# Altium footprint library IC-SMD.PCBLIB: 298 footprints (part 5 of 19)
Each footprint in its own frame and in the unit in brackets; x right, y up, seen from the top. Pads: shape width x height; smd on the part's side, far side on the other; paste and mask are expansions set on the pad; w line width, h text height; cw(c..) or ccw(c..) is an arc to the next point about the centre after c.
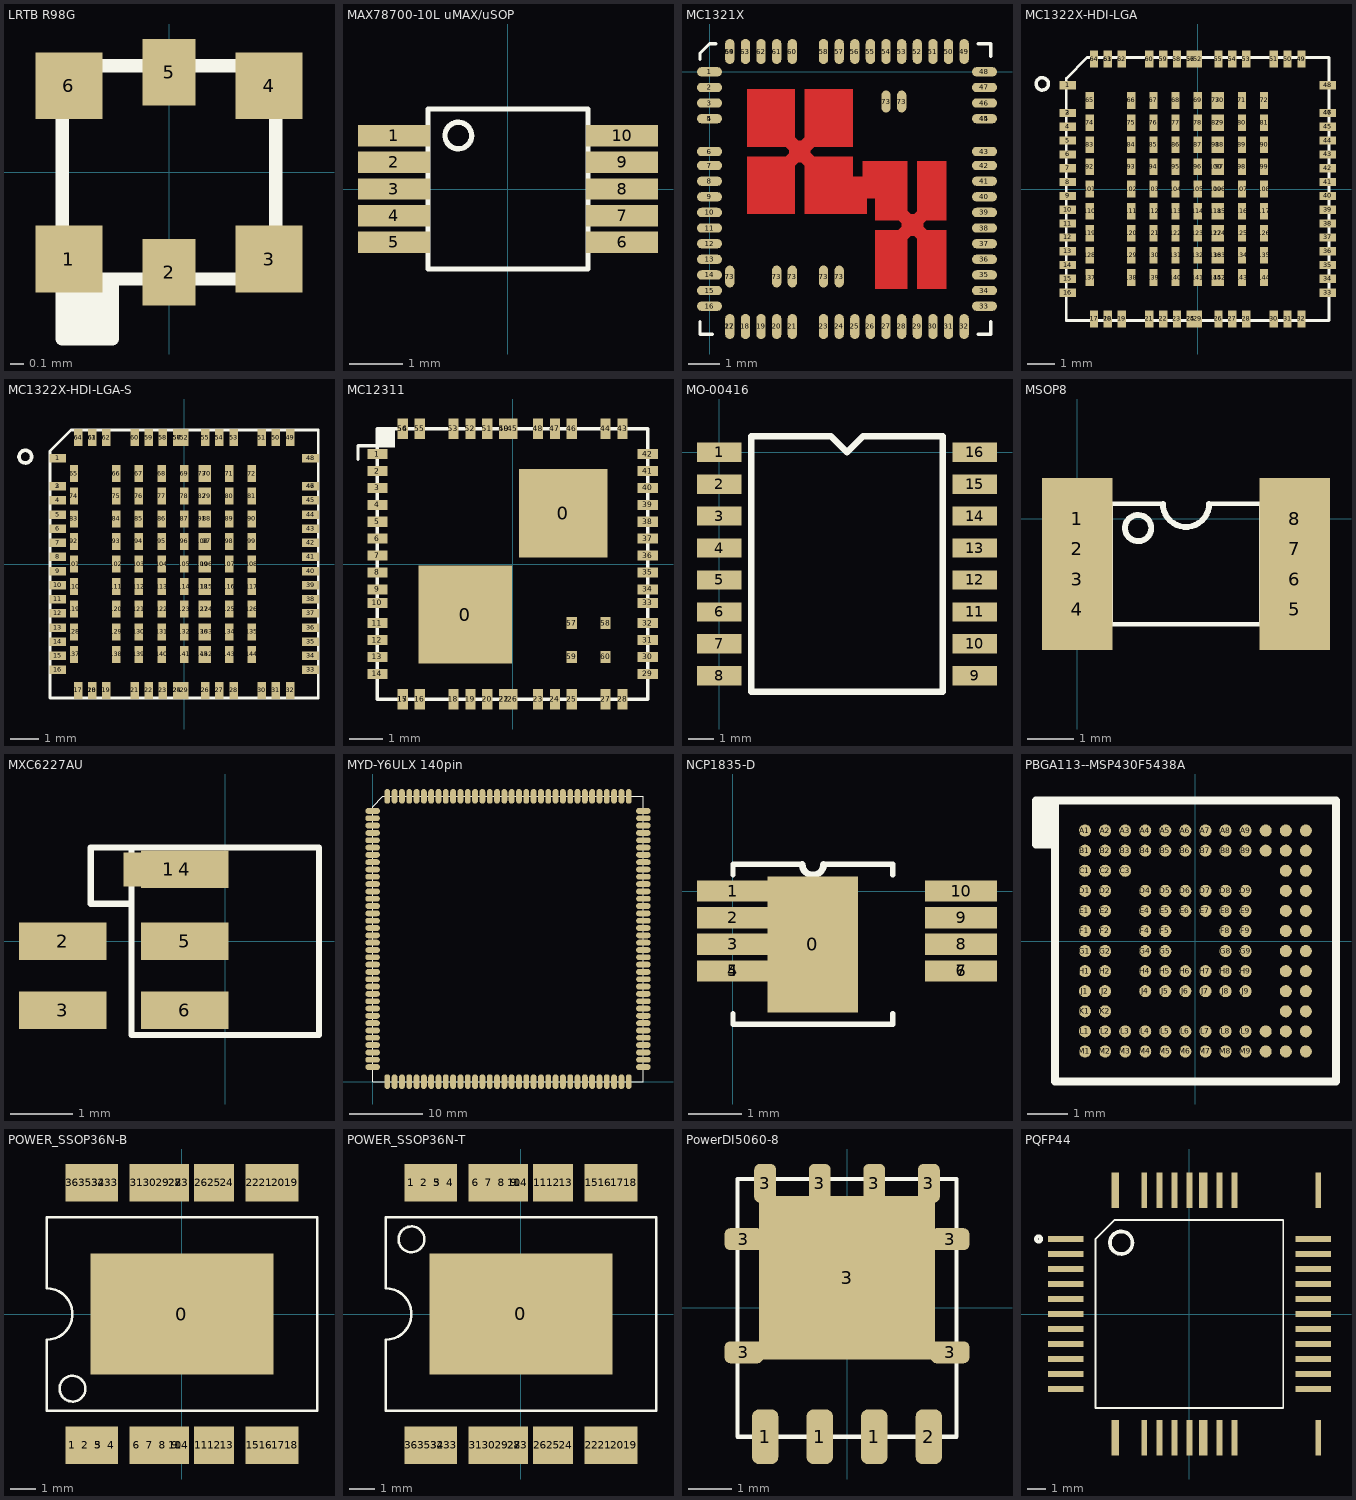
[diagram p4: the footprints below, top view; thin cyan lines are the x and y axes]

## LRTB R98G [mm] "LRTB R98G"
pads (6):
  rect 0.5x0.5 smd: 1(-0.75,-0.65) 3(0.75,-0.65) 4(0.75,0.65) 6(-0.75,0.65)
  rect 0.4x0.5 smd: 2(0,-0.75) 5(0,0.75)
TopOverlay:
  rectangle: -0.85,-1.25 -0.375,-0.8
  lines w0.1: -0.425,-0.8 -0.425,-1.25 -0.8,-1.25 -0.8,-0.8 ; -0.8,-0.8 0.8,-0.8 0.8,0.8 -0.8,0.8 -0.8,-0.8

## MAX78700-10L uMAX/uSOP [mm] "MAX78700-10L uMAX/uSOP"
pads (10):
  rect 1.35x0.4 smd: 1(-2.14,1) 2(-2.14,0.5) 3(-2.14,0) 4(-2.14,-0.5) 5(-2.14,-1) 6(2.14,-1) 7(2.14,-0.5) 8(2.14,0) 9(2.14,0.5) 10(2.14,1)
TopOverlay:
  circle w0.1: c-0.932,1.003 r0.25
  lines w0.1: -1.5,-1.5 1.5,-1.5 1.5,1.5 -1.5,1.5 -1.5,-1.5

## MC1321X [mm]
pads (71):
  oval 0.8x0.3 smd: 1(0,0) 2(0,-0.5) 3(0,-1) 4(0,-1.5) 5(0,-1.5) 6(0,-2.55) 7(0,-3) 8(0,-3.5) 9(0,-4) 10(0,-4.5) 11(0,-5) 12(0,-5.5) 13(0,-6) 14(0,-6.5) 15(0,-7) 16(0,-7.5) 33(8.8,-7.5) 34(8.8,-7) 35(8.8,-6.5) 36(8.8,-6) 37(8.8,-5.5) 38(8.8,-5) 39(8.8,-4.5) 40(8.8,-4) 41(8.8,-3.5) 42(8.8,-3) 43(8.8,-2.55) 44(8.8,-1.5) 45(8.8,-1.5) 46(8.8,-1) 47(8.8,-0.5) 48(8.8,0)
  oval 0.3x0.8 smd: 17(0.65,-8.15) 18(1.15,-8.15) 19(1.65,-8.15) 20(2.15,-8.15) 21(2.65,-8.15) 22(0.65,-8.15) 23(3.65,-8.15) 24(4.15,-8.15) 25(4.65,-8.15) 26(5.15,-8.15) 27(5.65,-8.15) 28(6.15,-8.15) 29(6.65,-8.15) 30(7.15,-8.15) 31(7.65,-8.15) 32(8.15,-8.15) 49(8.15,0.65) 50(7.65,0.65) 51(7.15,0.65) 52(6.65,0.65) 53(6.15,0.65) 54(5.65,0.65) 55(5.15,0.65) 56(4.65,0.65) 57(4.15,0.65) 58(3.65,0.65) 59(0.65,0.65) 60(2.65,0.65) 61(2.15,0.65) 62(1.65,0.65) 63(1.15,0.65) 64(0.65,0.65)
  oval 0.3x0.7 smd: 73(0.65,-6.55) 73(2.15,-6.55) 73(2.65,-6.55) 73(3.65,-6.55) 73(4.15,-6.55) 73(5.65,-0.95) 73(6.15,-0.95)
TopLayer:
  rectangle: 6.141,-5.253 6.842,-4.552
  rectangle: 2.54,-2.904 3.238,-2.204
  rectangle: 6.64,-6.953 7.588,-5.055
  rectangle: 5.294,-6.953 6.338,-5.055
  rectangle: 6.64,-4.753 7.588,-2.858
  rectangle: 5.294,-4.751 6.338,-2.858
  rectangle: 4.893,-4.05 5.31,-2.858
  rectangle: 4.588,-4.553 5.035,-3.356
  rectangle: 1.195,-4.553 2.74,-2.703
  rectangle: 3.044,-2.401 4.588,-0.557
  rectangle: 1.192,-2.404 2.74,-0.557
  rectangle: 3.044,-4.553 4.588,-2.709
  lines w0.42: 5.762,-4.177 7.22,-5.635 ; 5.81,-5.584 7.09,-4.304
  lines w0.43: 2.261,-1.926 3.46,-3.125 ; 2.49,-2.956 3.36,-2.086
TopOverlay:
  lines w0.1: -0.3,-8 -0.3,-8.4 0.1,-8.4 ; -0.3,0.4 -0.3,0.6 0,0.9 0.2,0.9 ; 8.6,-8.4 9,-8.4 9,-8 ; 8.6,0.9 9,0.9 9,0.5
TopPaste:
  rectangle: 1.19,-2.105 2.74,-0.555
  rectangle: 3.04,-4.555 4.59,-3.005
  region: 3.34,-2.405 3.517,-2.227 3.217,-1.927 3.04,-2.105
  region: 2.74,-2.105 2.575,-1.94 2.275,-2.24 2.44,-2.405
  region: 3.25,-3.215 3.55,-2.915 3.34,-2.705 3.04,-3.005
  region: 2.567,-3.177 2.74,-3.005 2.44,-2.705 2.268,-2.877
  region: 6.825,-5.54 7.125,-5.24 6.94,-5.055 6.64,-5.355
  region: 6.142,-5.552 6.34,-5.355 6.04,-5.055 5.842,-5.252
  region: 6.94,-4.755 7.117,-4.577 6.817,-4.277 6.64,-4.455
  region: 6.04,-4.755 6.34,-4.455 6.181,-4.296 5.881,-4.596
  rectangle: 6.64,-6.955 7.59,-5.355
  rectangle: 6.94,-5.425 7.59,-5.055
  rectangle: 5.29,-5.45 6.04,-5.055
  rectangle: 5.29,-6.955 6.34,-5.355
  rectangle: 6.94,-4.755 7.59,-4.4
  rectangle: 6.64,-4.455 7.59,-2.855
  rectangle: 5.29,-4.455 6.34,-2.855
  rectangle: 5.29,-4.755 6.04,-4.425
  rectangle: 3.34,-2.405 4.59,-2.05
  rectangle: 3.04,-2.105 4.59,-0.555
  rectangle: 3.34,-3.125 4.59,-2.705
  rectangle: 1.19,-3.05 2.44,-2.705
  rectangle: 1.19,-2.405 2.44,-2.075
  rectangle: 1.19,-4.555 2.74,-3.005
  lines w0.01: 1.19,-4.555 2.74,-4.555 2.74,-3.005 2.44,-2.705 1.19,-2.705 1.19,-4.555 ; 1.19,-2.405 1.19,-0.555 2.74,-0.555 2.74,-2.105 2.44,-2.405 1.19,-2.405 ; 3.04,-4.555 4.59,-4.555 4.59,-2.705 3.34,-2.705 3.04,-3.005 3.04,-4.555 ; 3.04,-2.105 3.04,-0.555 4.59,-0.555 4.59,-2.405 3.34,-2.405 3.04,-2.105 ; 5.29,-6.955 5.29,-5.055 6.04,-5.055 6.34,-5.355 6.34,-6.955 5.29,-6.955 ; 5.29,-4.755 6.04,-4.755 6.34,-4.455 6.34,-2.855 5.29,-2.855 5.29,-4.755 ; 6.64,-6.955 7.59,-6.955 7.59,-5.055 6.94,-5.055 6.64,-5.355 6.64,-6.955 ; 6.64,-4.455 6.94,-4.755 7.59,-4.755 7.59,-2.855 6.64,-2.855 6.64,-4.455
TopSolder:
  region: 7.9,-2.625 5.1,-2.625 5.1,-7.175 7.9,-7.175
  region: 4.8,-0.325 0.95,-0.325 0.95,-4.775 4.8,-4.775
  rectangle: 4.65,-4.775 5.25,-2.625

## MC1322X-HDI-LGA [mm]
pads (145):
  rect 0.6x0.3 smd: 1(-4.7,3.75) 2(-4.7,2.75) 3(-4.7,2.75) 4(-4.7,2.25) 5(-4.7,1.75) 6(-4.7,1.25) 7(-4.7,0.75) 8(-4.7,0.25) 9(-4.7,-0.25) 10(-4.7,-0.75) 11(-4.7,-1.25) 12(-4.7,-1.75) 13(-4.7,-2.25) 14(-4.7,-2.75) 15(-4.7,-3.25) 16(-4.7,-3.75) 33(4.7,-3.75) 34(4.7,-3.25) 35(4.7,-2.75) 36(4.7,-2.25) 37(4.7,-1.75) 38(4.7,-1.25) 39(4.7,-0.75) 40(4.7,-0.25) 41(4.7,0.25) 42(4.7,0.75) 43(4.7,1.25) 44(4.7,1.75) 45(4.7,2.25) 46(4.7,2.75) 47(4.7,2.75) 48(4.7,3.75)
  rect 0.3x0.6 smd: 17(-3.75,-4.7) 18(-3.25,-4.7) 19(-2.75,-4.7) 20(-3.25,-4.7) 21(-1.75,-4.7) 22(-1.25,-4.7) 23(-0.75,-4.7) 24(-0.25,-4.7) 25(-0.25,-4.7) 26(0.75,-4.7) 27(1.25,-4.7) 28(1.75,-4.7) 29(0,-4.7) 30(2.75,-4.7) 31(3.25,-4.7) 32(3.75,-4.7) 49(3.75,4.7) 50(3.25,4.7) 51(2.75,4.7) 52(0,4.7) 53(1.75,4.7) 54(1.25,4.7) 55(0.75,4.7) 56(-0.25,4.7) 57(-0.25,4.7) 58(-0.75,4.7) 59(-1.25,4.7) 60(-1.75,4.7) 61(-3.25,4.7) 62(-2.75,4.7) 63(-3.25,4.7) 64(-3.75,4.7) 65(-3.9,3.2) 66(-2.4,3.2) 67(-1.6,3.2) 68(-0.8,3.2) 69(0,3.2) 70(0.8,3.2) 71(1.6,3.2) 72(2.4,3.2) 73(0.65,3.2) 74(-3.9,2.4) 75(-2.4,2.4) 76(-1.6,2.4) 77(-0.8,2.4) 78(0,2.4) 79(0.8,2.4) 80(1.6,2.4) 81(2.4,2.4) 82(0.65,2.4) 83(-3.9,1.6) 84(-2.4,1.6) 85(-1.6,1.6) 86(-0.8,1.6) 87(0,1.6) 88(0.8,1.6) 89(1.6,1.6) 90(2.4,1.6) 91(0.65,1.6) 92(-3.9,0.8) 93(-2.4,0.8) 94(-1.6,0.8) 95(-0.8,0.8) 96(0,0.8) 97(0.8,0.8) 98(1.6,0.8) 99(2.4,0.8) 100(0.65,0.8) 101(-3.9,0) 102(-2.4,0) 103(-1.6,0) 104(-0.8,0) 105(0,0) 106(0.8,0) 107(1.6,0) 108(2.4,0) 109(0.65,0) 110(-3.9,-0.8) 111(-2.4,-0.8) 112(-1.6,-0.8) 113(-0.8,-0.8) 114(0,-0.8) 115(0.8,-0.8) 116(1.6,-0.8) 117(2.4,-0.8) 118(0.65,-0.8) 119(-3.9,-1.6) 120(-2.4,-1.6) 121(-1.6,-1.6) 122(-0.8,-1.6) 123(0,-1.6) 124(0.8,-1.6) 125(1.6,-1.6) 126(2.4,-1.6) 127(0.65,-1.6) 128(-3.9,-2.4) 129(-2.4,-2.4) 130(-1.6,-2.4) 131(-0.8,-2.4) 132(0,-2.4) 133(0.8,-2.4) 134(1.6,-2.4) 135(2.4,-2.4) 136(0.65,-2.4) 137(-3.9,-3.2) 138(-2.4,-3.2) 139(-1.6,-3.2) 140(-0.8,-3.2) 141(0,-3.2) 142(0.8,-3.2) 143(1.6,-3.2) 144(2.4,-3.2) 145(0.65,-3.2)
TopOverlay:
  circle w0.127: c-5.624,3.8 r0.224
  lines w0.1: -4.75,-4.75 4.75,-4.75 4.75,4.75 -4,4.75 -4.75,4 -4.75,-4.75

## MC1322X-HDI-LGA-S [mm]
pads (145):
  rect 0.6x0.3 smd: 1(-4.475,3.75) 2(-4.475,2.75) 3(-4.475,2.75) 4(-4.475,2.25) 5(-4.475,1.75) 6(-4.475,1.25) 7(-4.475,0.75) 8(-4.475,0.25) 9(-4.475,-0.25) 10(-4.475,-0.75) 11(-4.475,-1.25) 12(-4.475,-1.75) 13(-4.475,-2.25) 14(-4.475,-2.75) 15(-4.475,-3.25) 16(-4.475,-3.75) 33(4.475,-3.75) 34(4.475,-3.25) 35(4.475,-2.75) 36(4.475,-2.25) 37(4.475,-1.75) 38(4.475,-1.25) 39(4.475,-0.75) 40(4.475,-0.25) 41(4.475,0.25) 42(4.475,0.75) 43(4.475,1.25) 44(4.475,1.75) 45(4.475,2.25) 46(4.475,2.75) 47(4.475,2.75) 48(4.475,3.75)
  rect 0.3x0.6 smd: 17(-3.75,-4.475) 18(-3.25,-4.475) 19(-2.75,-4.475) 20(-3.25,-4.475) 21(-1.75,-4.475) 22(-1.25,-4.475) 23(-0.75,-4.475) 24(-0.25,-4.475) 25(-0.25,-4.475) 26(0.75,-4.475) 27(1.25,-4.475) 28(1.75,-4.475) 29(0,-4.475) 30(2.75,-4.475) 31(3.25,-4.475) 32(3.75,-4.475) 49(3.75,4.475) 50(3.25,4.475) 51(2.75,4.475) 52(0,4.475) 53(1.75,4.475) 54(1.25,4.475) 55(0.75,4.475) 56(-0.25,4.475) 57(-0.25,4.475) 58(-0.75,4.475) 59(-1.25,4.475) 60(-1.75,4.475) 61(-3.25,4.475) 62(-2.75,4.475) 63(-3.25,4.475) 64(-3.75,4.475) 65(-3.9,3.2) 66(-2.4,3.2) 67(-1.6,3.2) 68(-0.8,3.2) 69(0,3.2) 70(0.8,3.2) 71(1.6,3.2) 72(2.4,3.2) 73(0.65,3.2) 74(-3.9,2.4) 75(-2.4,2.4) 76(-1.6,2.4) 77(-0.8,2.4) 78(0,2.4) 79(0.8,2.4) 80(1.6,2.4) 81(2.4,2.4) 82(0.65,2.4) 83(-3.9,1.6) 84(-2.4,1.6) 85(-1.6,1.6) 86(-0.8,1.6) 87(0,1.6) 88(0.8,1.6) 89(1.6,1.6) 90(2.4,1.6) 91(0.65,1.6) 92(-3.9,0.8) 93(-2.4,0.8) 94(-1.6,0.8) 95(-0.8,0.8) 96(0,0.8) 97(0.8,0.8) 98(1.6,0.8) 99(2.4,0.8) 100(0.65,0.8) 101(-3.9,0) 102(-2.4,0) 103(-1.6,0) 104(-0.8,0) 105(0,0) 106(0.8,0) 107(1.6,0) 108(2.4,0) 109(0.65,0) 110(-3.9,-0.8) 111(-2.4,-0.8) 112(-1.6,-0.8) 113(-0.8,-0.8) 114(0,-0.8) 115(0.8,-0.8) 116(1.6,-0.8) 117(2.4,-0.8) 118(0.65,-0.8) 119(-3.9,-1.6) 120(-2.4,-1.6) 121(-1.6,-1.6) 122(-0.8,-1.6) 123(0,-1.6) 124(0.8,-1.6) 125(1.6,-1.6) 126(2.4,-1.6) 127(0.65,-1.6) 128(-3.9,-2.4) 129(-2.4,-2.4) 130(-1.6,-2.4) 131(-0.8,-2.4) 132(0,-2.4) 133(0.8,-2.4) 134(1.6,-2.4) 135(2.4,-2.4) 136(0.65,-2.4) 137(-3.9,-3.2) 138(-2.4,-3.2) 139(-1.6,-3.2) 140(-0.8,-3.2) 141(0,-3.2) 142(0.8,-3.2) 143(1.6,-3.2) 144(2.4,-3.2) 145(0.65,-3.2)
TopOverlay:
  circle w0.127: c-5.624,3.8 r0.224
  lines w0.1: -4.75,-4.75 4.75,-4.75 4.75,4.75 -4,4.75 -4.75,4 -4.75,-4.75

## MC12311 [mm]
pads (62):
  rect 2.77x2.901 smd: 0(-1.4,-1.5)
  rect 2.62x2.62 smd: 0(1.5,1.5)
  rect 0.6x0.3 smd: 1(-4,3.25) 2(-4,2.75) 3(-4,2.25) 4(-4,1.75) 5(-4,1.25) 6(-4,0.75) 7(-4,0.25) 8(-4,-0.25) 9(-4,-0.75) 10(-4,-1.15) 11(-4,-1.75) 12(-4,-2.25) 13(-4,-2.75) 14(-4,-3.25) 29(4,-3.25) 30(4,-2.75) 31(4,-2.25) 32(4,-1.75) 33(4,-1.15) 34(4,-0.75) 35(4,-0.25) 36(4,0.25) 37(4,0.75) 38(4,1.25) 39(4,1.75) 40(4,2.25) 41(4,2.75) 42(4,3.25)
  rect 0.3x0.6 smd: 15(-3.25,-4) 16(-2.75,-4) 17(-3.25,-4) 18(-1.75,-4) 19(-1.25,-4) 20(-0.75,-4) 21(-0.25,-4) 22(-0.25,-4) 23(0.75,-4) 24(1.25,-4) 25(1.75,-4) 26(0,-4) 27(2.75,-4) 28(3.25,-4) 43(3.25,4) 44(2.75,4) 45(0,4) 46(1.75,4) 47(1.25,4) 48(0.75,4) 49(-0.25,4) 50(-0.25,4) 51(-0.75,4) 52(-1.25,4) 53(-1.75,4) 54(-3.25,4) 55(-2.75,4) 56(-3.25,4)
  rect 0.3x0.35 smd: 57(1.75,-1.75) 58(2.75,-1.75) 59(1.75,-2.75) 60(2.75,-2.75)
TopOverlay:
  rectangle: -4,3.45 -3.475,4
  lines w0.1: -4.575,3.1 -4.575,3.5 -4,3.5 ; -4,-4 -4,4 4,4 4,-4 -4,-4

## MO-00416 [mil]
pads (16):
  rect 70x30 smd: 1(0,0) 2(0,-50) 3(0,-100) 4(0,-150) 5(0,-200) 6(0,-250) 7(0,-300) 8(0,-350) 9(400,-350) 10(400,-300) 11(400,-250) 12(400,-200) 13(400,-150) 14(400,-100) 15(400,-50) 16(400,0)
TopOverlay:
  lines w10: 50,-375 50,0 50,25 175,25 200,0 225,25 350,25 350,-375 50,-375

## MSOP8 [mm]
pads (8):
  rect 1.52x1.77 smd: 1(0,0) 2(0,-0.65) 3(0,-1.3) 4(0,-1.95) 5(4.7,-1.95) 6(4.7,-1.3) 7(4.7,-0.65) 8(4.7,0)
TopOverlay:
  circle w0.127: c1.317,-0.2 r0.283
  lines w0.1: 1.849,0.325 0.725,0.325 0.725,-2.275 3.973,-2.275 3.973,0.325 2.849,0.325
  lines w0.127: 1.85,0.325 ccw(c2.35,0.325) 2.85,0.325

## MXC6227AU [mm]
pads (6):
  rect 1.45x0.55 smd: 1(-0.9,1.15)
  rect 1.4x0.6 smd: 2(-2.6,0) 3(-2.6,-1.1) 4(-0.65,1.15) 5(-0.65,0) 6(-0.65,-1.1)
TopOverlay:
  lines w0.1: -1.5,0.6 -2.15,0.6 -2.15,1.5 -1.5,1.5 ; -1.5,1.5 1.5,1.5 1.5,-1.5 -1.5,-1.5 -1.5,1.5

## MYD-Y6ULX 140pin [mm] "MYD-Y6ULX 140pin"
pads (140):
  oval 2x0.8 smd: 1(0,37) 2(0,36) 3(0,35) 4(0,34) 5(0,33) 6(0,32) 7(0,31) 8(0,30) 9(0,29) 10(0,28) 11(0,27) 12(0,26) 13(0,25) 14(0,24) 15(0,23) 16(0,22) 17(0,21) 18(0,20) 19(0,19) 20(0,18) 21(0,17) 22(0,16) 23(0,15) 24(0,14) 25(0,13) 26(0,12) 27(0,11) 28(0,10) 29(0,9) 30(0,8) 31(0,7) 32(0,6) 33(0,5) 34(0,4) 35(0,3) 36(0,2) 71(37,2) 72(37,3) 73(37,4) 74(37,5) 75(37,6) 76(37,7) 77(37,8) 78(37,9) 79(37,10) 80(37,11) 81(37,12) 82(37,13) 83(37,14) 84(37,15) 85(37,16) 86(37,17) 87(37,18) 88(37,19) 89(37,20) 90(37,21) 91(37,22) 92(37,23) 93(37,24) 94(37,25) 95(37,26) 96(37,27) 97(37,28) 98(37,29) 99(37,30) 100(37,31) 101(37,32) 102(37,33) 103(37,34) 104(37,35) 105(37,36) 106(37,37)
  oval 0.8x2 smd: 37(2,0) 38(3,0) 39(4,0) 40(5,0) 41(6,0) 42(7,0) 43(8,0) 44(9,0) 45(10,0) 46(11,0) 47(12,0) 48(13,0) 49(14,0) 50(15,0) 51(16,0) 52(17,0) 53(18,0) 54(19,0) 55(20,0) 56(21,0) 57(22,0) 58(23,0) 59(24,0) 60(25,0) 61(26,0) 62(27,0) 63(28,0) 64(29,0) 65(30,0) 66(31,0) 67(32,0) 68(33,0) 69(34,0) 70(35,0) 107(35,39) 108(34,39) 109(33,39) 110(32,39) 111(31,39) 112(30,39) 113(29,39) 114(28,39) 115(27,39) 116(26,39) 117(25,39) 118(24,39) 119(23,39) 120(22,39) 121(21,39) 122(20,39) 123(19,39) 124(18,39) 125(17,39) 126(16,39) 127(15,39) 128(14,39) 129(13,39) 130(12,39) 131(11,39) 132(10,39) 133(9,39) 134(8,39) 135(7,39) 136(6,39) 137(5,39) 138(4,39) 139(3,39) 140(2,39)
TopOverlay:
  lines w0.127: 0,0 0,37.603 1.397,39 37,39 37,0 0,0

## NCP1835-D [mm]
pads (11):
  rect 1.7x2.55 smd: 0(1.5,-1)
  rect 1.35x0.4 smd: 1(0,0) 2(0,-0.5) 3(0,-1) 4(0,-1.5) 5(0,-1.5) 6(4.28,-1.5) 7(4.28,-1.5) 8(4.28,-1) 9(4.28,-0.5) 10(4.28,0)
TopOverlay:
  lines w0.1: 0,-2.3 0,-2.5 3,-2.5 3,-2.3 ; 0,0.3 0,0.5 1.3,0.5 ; 1.7,0.5 3,0.5 3,0.3
  lines w0.127: 1.3,0.5 ccw(c1.5,0.5) 1.7,0.5

## PBGA113--MSP430F5438A [mm] "PBGA113--MSP430F5438A"
pads (113):
  round 0.3 smd mask+0.05: A1(-2.75,2.75) A2(-2.25,2.75) A3(-1.75,2.75) A4(-1.25,2.75) A5(-0.75,2.75) A6(-0.25,2.75) A7(0.25,2.75) A8(0.75,2.75) A9(1.25,2.75) A10(1.75,2.75) A11(2.25,2.75) A12(2.75,2.75) B1(-2.75,2.25) B2(-2.25,2.25) B3(-1.75,2.25) B4(-1.25,2.25) B5(-0.75,2.25) B6(-0.25,2.25) B7(0.25,2.25) B8(0.75,2.25) B9(1.25,2.25) B10(1.75,2.25) B11(2.25,2.25) B12(2.75,2.25) C1(-2.75,1.75) C2(-2.25,1.75) C3(-1.75,1.75) C11(2.25,1.75) C12(2.75,1.75) D1(-2.75,1.25) D2(-2.25,1.25) D4(-1.25,1.25) D5(-0.75,1.25) D6(-0.25,1.25) D7(0.25,1.25) D8(0.75,1.25) D9(1.25,1.25) D11(2.25,1.25) D12(2.75,1.25) E1(-2.75,0.75) E2(-2.25,0.75) E4(-1.25,0.75) E5(-0.75,0.75) E6(-0.25,0.75) E7(0.25,0.75) E8(0.75,0.75) E9(1.25,0.75) E11(2.25,0.75) E12(2.75,0.75) F1(-2.75,0.25) F2(-2.25,0.25) F4(-1.25,0.25) F5(-0.75,0.25) F8(0.75,0.25) F9(1.25,0.25) F11(2.25,0.25) F12(2.75,0.25) G1(-2.75,-0.25) G2(-2.25,-0.25) G4(-1.25,-0.25) G5(-0.75,-0.25) G8(0.75,-0.25) G9(1.25,-0.25) G11(2.25,-0.25) G12(2.75,-0.25) H1(-2.75,-0.75) H2(-2.25,-0.75) H4(-1.25,-0.75) H5(-0.75,-0.75) H6(-0.25,-0.75) H7(0.25,-0.75) H8(0.75,-0.75) H9(1.25,-0.75) H11(2.25,-0.75) H12(2.75,-0.75) J1(-2.75,-1.25) J2(-2.25,-1.25) J4(-1.25,-1.25) J5(-0.75,-1.25) J6(-0.25,-1.25) J7(0.25,-1.25) J8(0.75,-1.25) J9(1.25,-1.25) J11(2.25,-1.25) J12(2.75,-1.25) K1(-2.75,-1.75) K2(-2.25,-1.75) K11(2.25,-1.75) K12(2.75,-1.75) L1(-2.75,-2.25) L2(-2.25,-2.25) L3(-1.75,-2.25) L4(-1.25,-2.25) L5(-0.75,-2.25) L6(-0.25,-2.25) L7(0.25,-2.25) L8(0.75,-2.25) L9(1.25,-2.25) L10(1.75,-2.25) L11(2.25,-2.25) L12(2.75,-2.25) M1(-2.75,-2.75) M2(-2.25,-2.75) M3(-1.75,-2.75) M4(-1.25,-2.75) M5(-0.75,-2.75) M6(-0.25,-2.75) M7(0.25,-2.75) M8(0.75,-2.75) M9(1.25,-2.75) M10(1.75,-2.75) M11(2.25,-2.75) M12(2.75,-2.75)
TopOverlay:
  rectangle: -3.75,2.5 -3.45,3.6
  rectangle: -3.97,2.4 -3.67,3.5
  lines w0.2: -3.67,2.4 -3.97,2.4 -3.97,3.5 -3.67,3.5 ; -3.5,2.4 -3.8,2.4 -3.8,3.5 -3.5,3.5 ; -3.5,3.5 3.5,3.5 3.5,-3.5 -3.5,-3.5 -3.5,3.5

## POWER_SSOP36N-B [mm]
pads (37):
  rect 7.1x4.7 smd: 0(0,0)
  rect 0.55x1.45 smd: 1(-4.25,-5.1) 2(-3.75,-5.1) 3(-3.25,-5.1) 4(-2.75,-5.1) 5(-3.25,-5.1) 6(-1.75,-5.1) 7(-1.25,-5.1) 8(-0.75,-5.1) 9(-0.25,-5.1) 10(-0.25,-5.1) 11(0.75,-5.1) 12(1.25,-5.1) 13(1.75,-5.1) 14(0,-5.1) 15(2.75,-5.1) 16(3.25,-5.1) 17(3.75,-5.1) 18(4.25,-5.1) 19(4.25,5.1) 20(3.75,5.1) 21(3.25,5.1) 22(2.75,5.1) 23(0,5.1) 24(1.75,5.1) 25(1.25,5.1) 26(0.75,5.1) 27(-0.25,5.1) 28(-0.25,5.1) 29(-0.75,5.1) 30(-1.25,5.1) 31(-1.75,5.1) 32(-3.25,5.1) 33(-2.75,5.1) 34(-3.25,5.1) 35(-3.75,5.1) 36(-4.25,5.1)
TopOverlay:
  circle w0.1: c-4.25,-2.9 r0.5
  lines w0.1: -5.25,-3.75 -5.25,-1 ccw(c-5.25,0) -5.25,1 -5.25,3.75 5.25,3.75 5.25,-3.75 -5.25,-3.75

## POWER_SSOP36N-T [mm]
pads (37):
  rect 7.1x4.7 smd: 0(0,0)
  rect 0.55x1.45 smd: 1(-4.25,5.1) 2(-3.75,5.1) 3(-3.25,5.1) 4(-2.75,5.1) 5(-3.25,5.1) 6(-1.75,5.1) 7(-1.25,5.1) 8(-0.75,5.1) 9(-0.25,5.1) 10(-0.25,5.1) 11(0.75,5.1) 12(1.25,5.1) 13(1.75,5.1) 14(0,5.1) 15(2.75,5.1) 16(3.25,5.1) 17(3.75,5.1) 18(4.25,5.1) 19(4.25,-5.1) 20(3.75,-5.1) 21(3.25,-5.1) 22(2.75,-5.1) 23(0,-5.1) 24(1.75,-5.1) 25(1.25,-5.1) 26(0.75,-5.1) 27(-0.25,-5.1) 28(-0.25,-5.1) 29(-0.75,-5.1) 30(-1.25,-5.1) 31(-1.75,-5.1) 32(-3.25,-5.1) 33(-2.75,-5.1) 34(-3.25,-5.1) 35(-3.75,-5.1) 36(-4.25,-5.1)
TopOverlay:
  circle w0.1: c-4.25,2.9 r0.5
  lines w0.1: -5.25,-3.75 5.25,-3.75 5.25,3.75 -5.25,3.75 -5.25,1 cw(c-5.25,0) -5.25,-1 -5.25,-3.75

## PowerDI5060-8 [mm] "PowerDI5060-8"
pads (13):
  rrect50% 0.61x1.27 smd: 1(-1.905,-3) 1(-0.635,-3) 1(0.635,-3) 2(1.905,-3)
  rrect50% 0.9x0.51 smd: 3(-2.4,-1.035) 3(-2.4,1.6) 3(2.4,-1.035) 3(2.4,1.6)
  rrect50% 0.51x0.9 smd: 3(-1.905,2.9) 3(-0.635,2.9) 3(0.635,2.9) 3(1.905,2.9)
  rect 4.1x3.8 smd: 3(0,0.7)
TopOverlay:
  lines w0.1: -2.55,-3 -2.55,3 2.55,3 2.55,-3 -2.55,-3

## PQFP44 [mm]
pads (44):
  rect 1.9x0.3 smd: 1(-6.6,4) 2(-6.6,3.2) 3(-6.6,2.4) 4(-6.6,1.6) 5(-6.6,0.8) 6(-6.6,0) 7(-6.6,-0.8) 8(-6.6,-1.6) 9(-6.6,-2.4) 10(-6.6,-3.2) 11(-6.6,-4) 23(6.6,-4) 24(6.6,-3.2) 25(6.6,-2.4) 26(6.6,-1.6) 27(6.6,-0.8) 28(6.6,0) 29(6.6,0.8) 30(6.6,1.6) 31(6.6,2.4) 32(6.6,3.2) 33(6.6,4)
  rect 0.3x1.9 smd: 12(-4,-6.6) 13(-3.9,-6.6) 14(-2.4,-6.6) 15(-1.6,-6.6) 16(-0.8,-6.6) 17(0,-6.6) 18(0.8,-6.6) 19(1.6,-6.6) 20(2.4,-6.6) 21(0.65,-6.6) 22(6.86,-6.6) 34(6.86,6.6) 35(0.65,6.6) 36(2.4,6.6) 37(1.6,6.6) 38(0.8,6.6) 39(0,6.6) 40(-0.8,6.6) 41(-1.6,6.6) 42(-2.4,6.6) 43(-3.9,6.6) 44(-4,6.6)
TopOverlay:
  circle w0.2: c-8.039,4 r0.139
  circle w0.2: c-3.64,3.8 r0.6
  lines w0.1: -5,-5 -5,4 -4,5 5,5 5,-5 -5,-5